# Altium footprint library Philips Footprints.PcbLib: 101 footprints (part 4 of 7)
Each footprint in its own frame and in the unit in brackets; x right, y up, seen from the top. Pads: shape width x height; smd on the part's side, far side on the other; paste and mask are expansions set on the pad; w line width, h text height; cw(c..) or ccw(c..) is an arc to the next point about the centre after c.
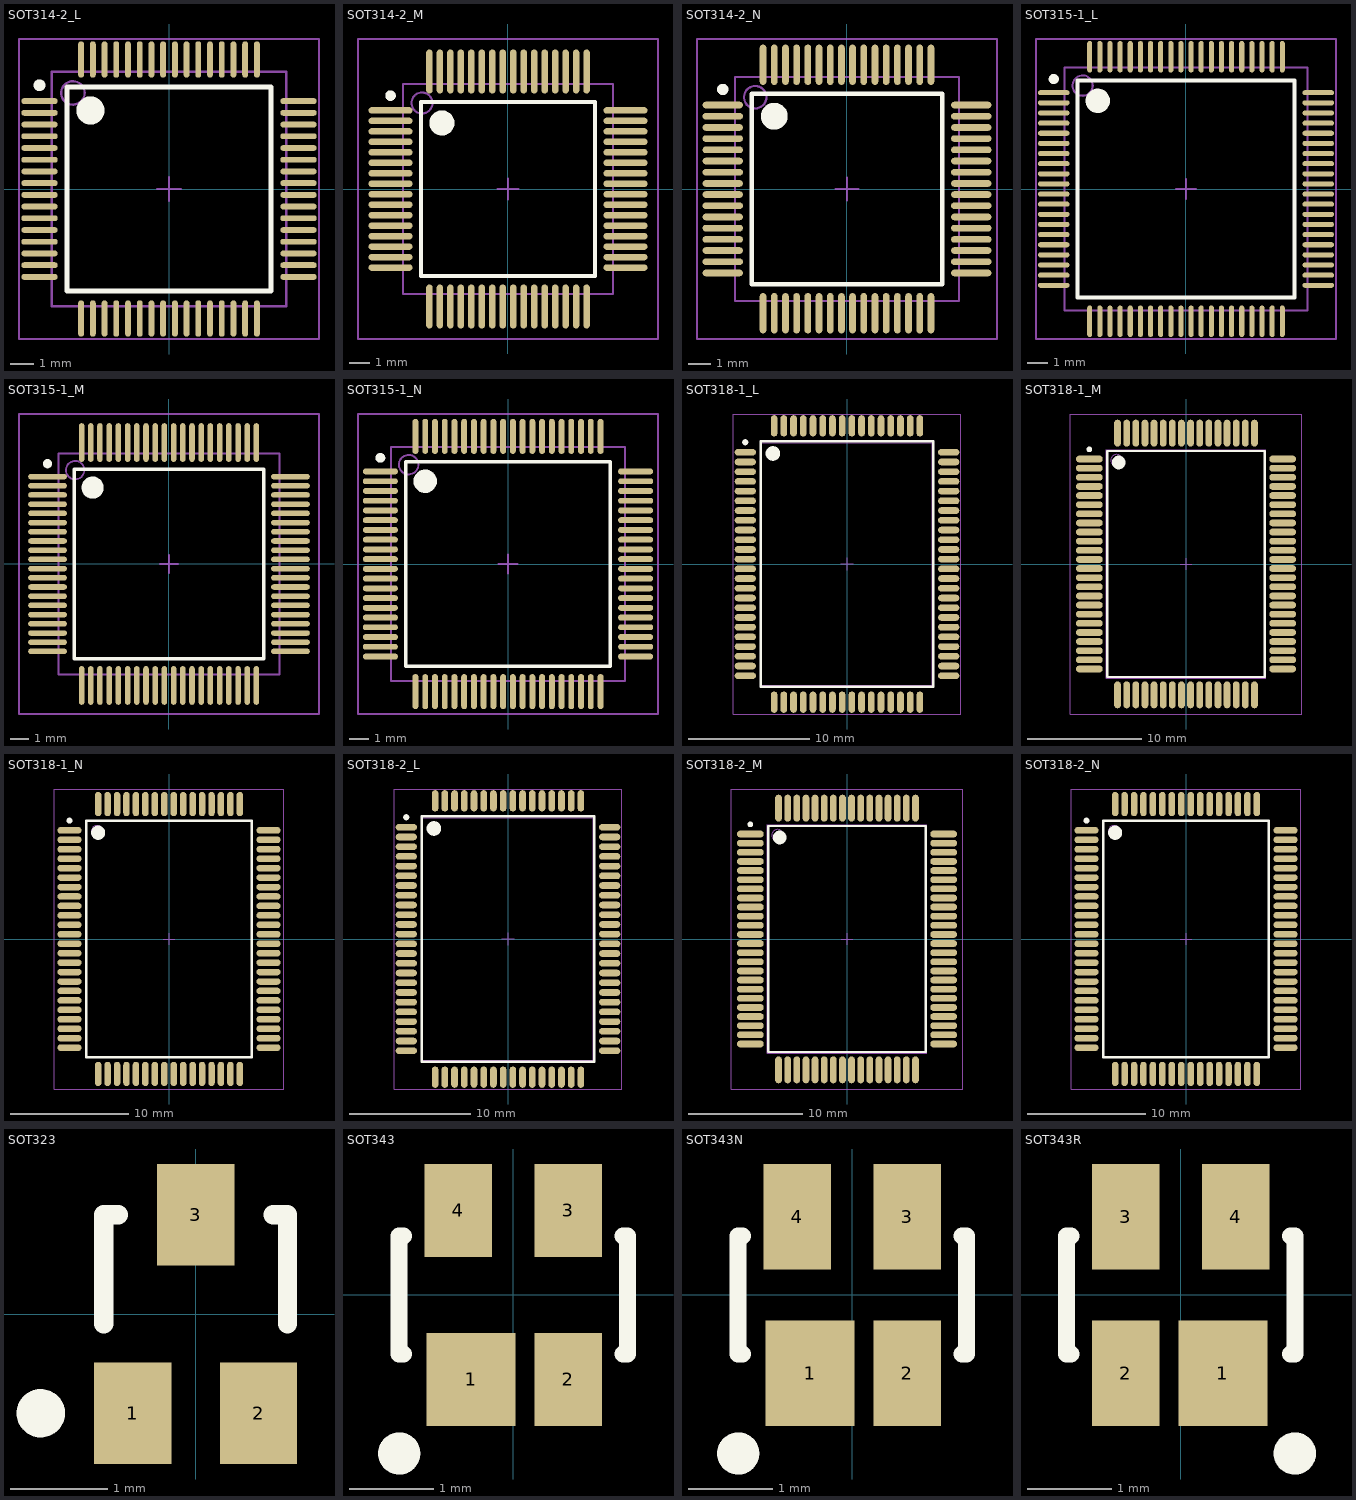
[diagram p3: the footprints below, top view; thin cyan lines are the x and y axes]

## SOT314-2_L [mm] "64-Pin Thin Quad Flat Pack 0.5 mm Pitch, IPC High Density"
height 1.6
pads (64):
  oval 1.55x0.25 smd: 1(-5.525,3.75) 2(-5.525,3.25) 3(-5.525,2.75) 4(-5.525,2.25) 5(-5.525,1.75) 6(-5.525,1.25) 7(-5.525,0.75) 8(-5.525,0.25) 9(-5.525,-0.25) 10(-5.525,-0.75) 11(-5.525,-1.25) 12(-5.525,-1.75) 13(-5.525,-2.25) 14(-5.525,-2.75) 15(-5.525,-3.25) 16(-5.525,-3.75) 33(5.525,-3.75) 34(5.525,-3.25) 35(5.525,-2.75) 36(5.525,-2.25) 37(5.525,-1.75) 38(5.525,-1.25) 39(5.525,-0.75) 40(5.525,-0.25) 41(5.525,0.25) 42(5.525,0.75) 43(5.525,1.25) 44(5.525,1.75) 45(5.525,2.25) 46(5.525,2.75) 47(5.525,3.25) 48(5.525,3.75)
  oval 0.25x1.55 smd: 17(-3.75,-5.525) 18(-3.25,-5.525) 19(-2.75,-5.525) 20(-2.25,-5.525) 21(-1.75,-5.525) 22(-1.25,-5.525) 23(-0.75,-5.525) 24(-0.25,-5.525) 25(0.25,-5.525) 26(0.75,-5.525) 27(1.25,-5.525) 28(1.75,-5.525) 29(2.25,-5.525) 30(2.75,-5.525) 31(3.25,-5.525) 32(3.75,-5.525) 49(3.75,5.525) 50(3.25,5.525) 51(2.75,5.525) 52(2.25,5.525) 53(1.75,5.525) 54(1.25,5.525) 55(0.75,5.525) 56(0.25,5.525) 57(-0.25,5.525) 58(-0.75,5.525) 59(-1.25,5.525) 60(-1.75,5.525) 61(-2.25,5.525) 62(-2.75,5.525) 63(-3.25,5.525) 64(-3.75,5.525)
Top Overlay:
  circle w0.6: c-3.35,3.35 r0.3
  circle w0.25: c-5.525,4.425 r0.125
  lines w0.2: -4.35,-4.35 4.35,-4.35 4.35,4.35 -4.35,4.35 -4.35,-4.35
Mechanical 13:
  circle w0.1: c-4.1,4.1 r0.5
  lines w0.1: -5,-5 5,-5 5,5 -5,5 -5,-5
Mechanical 15:
  lines w0.1: -0.5,0 0.5,0 ; 0,-0.5 0,0.5 ; -6.4,-6.4 6.4,-6.4 6.4,6.4 -6.4,6.4 -6.4,-6.4
3D body: height 1.6, standoff 0, extent -5,-5 5,5

## SOT314-2_M [mm] "64-Pin Thin Quad Flat Pack 0.5 mm Pitch, IPC Low Density"
height 1.6
pads (64):
  oval 2.1x0.3 smd: 1(-5.6,3.75) 2(-5.6,3.25) 3(-5.6,2.75) 4(-5.6,2.25) 5(-5.6,1.75) 6(-5.6,1.25) 7(-5.6,0.75) 8(-5.6,0.25) 9(-5.6,-0.25) 10(-5.6,-0.75) 11(-5.6,-1.25) 12(-5.6,-1.75) 13(-5.6,-2.25) 14(-5.6,-2.75) 15(-5.6,-3.25) 16(-5.6,-3.75) 33(5.6,-3.75) 34(5.6,-3.25) 35(5.6,-2.75) 36(5.6,-2.25) 37(5.6,-1.75) 38(5.6,-1.25) 39(5.6,-0.75) 40(5.6,-0.25) 41(5.6,0.25) 42(5.6,0.75) 43(5.6,1.25) 44(5.6,1.75) 45(5.6,2.25) 46(5.6,2.75) 47(5.6,3.25) 48(5.6,3.75)
  oval 0.3x2.1 smd: 17(-3.75,-5.6) 18(-3.25,-5.6) 19(-2.75,-5.6) 20(-2.25,-5.6) 21(-1.75,-5.6) 22(-1.25,-5.6) 23(-0.75,-5.6) 24(-0.25,-5.6) 25(0.25,-5.6) 26(0.75,-5.6) 27(1.25,-5.6) 28(1.75,-5.6) 29(2.25,-5.6) 30(2.75,-5.6) 31(3.25,-5.6) 32(3.75,-5.6) 49(3.75,5.6) 50(3.25,5.6) 51(2.75,5.6) 52(2.25,5.6) 53(1.75,5.6) 54(1.25,5.6) 55(0.75,5.6) 56(0.25,5.6) 57(-0.25,5.6) 58(-0.75,5.6) 59(-1.25,5.6) 60(-1.75,5.6) 61(-2.25,5.6) 62(-2.75,5.6) 63(-3.25,5.6) 64(-3.75,5.6)
Top Overlay:
  circle w0.6: c-3.15,3.15 r0.3
  circle w0.25: c-5.6,4.45 r0.125
  lines w0.2: -4.15,-4.15 4.15,-4.15 4.15,4.15 -4.15,4.15 -4.15,-4.15
Mechanical 13:
  circle w0.1: c-4.1,4.1 r0.5
  lines w0.1: -5,-5 5,-5 5,5 -5,5 -5,-5
Mechanical 15:
  lines w0.1: -0.5,0 0.5,0 ; 0,-0.5 0,0.5 ; -7.15,-7.15 7.15,-7.15 7.15,7.15 -7.15,7.15 -7.15,-7.15
3D body: height 1.6, standoff 0, extent -5,-5 5,5

## SOT314-2_N [mm] "64-Pin Thin Quad Flat Pack 0.5 mm Pitch, IPC Medium Density"
height 1.6
pads (64):
  oval 1.8x0.3 smd: 1(-5.55,3.75) 2(-5.55,3.25) 3(-5.55,2.75) 4(-5.55,2.25) 5(-5.55,1.75) 6(-5.55,1.25) 7(-5.55,0.75) 8(-5.55,0.25) 9(-5.55,-0.25) 10(-5.55,-0.75) 11(-5.55,-1.25) 12(-5.55,-1.75) 13(-5.55,-2.25) 14(-5.55,-2.75) 15(-5.55,-3.25) 16(-5.55,-3.75) 33(5.55,-3.75) 34(5.55,-3.25) 35(5.55,-2.75) 36(5.55,-2.25) 37(5.55,-1.75) 38(5.55,-1.25) 39(5.55,-0.75) 40(5.55,-0.25) 41(5.55,0.25) 42(5.55,0.75) 43(5.55,1.25) 44(5.55,1.75) 45(5.55,2.25) 46(5.55,2.75) 47(5.55,3.25) 48(5.55,3.75)
  oval 0.3x1.8 smd: 17(-3.75,-5.55) 18(-3.25,-5.55) 19(-2.75,-5.55) 20(-2.25,-5.55) 21(-1.75,-5.55) 22(-1.25,-5.55) 23(-0.75,-5.55) 24(-0.25,-5.55) 25(0.25,-5.55) 26(0.75,-5.55) 27(1.25,-5.55) 28(1.75,-5.55) 29(2.25,-5.55) 30(2.75,-5.55) 31(3.25,-5.55) 32(3.75,-5.55) 49(3.75,5.55) 50(3.25,5.55) 51(2.75,5.55) 52(2.25,5.55) 53(1.75,5.55) 54(1.25,5.55) 55(0.75,5.55) 56(0.25,5.55) 57(-0.25,5.55) 58(-0.75,5.55) 59(-1.25,5.55) 60(-1.75,5.55) 61(-2.25,5.55) 62(-2.75,5.55) 63(-3.25,5.55) 64(-3.75,5.55)
Top Overlay:
  circle w0.25: c-5.55,4.45 r0.125
  circle w0.6: c-3.25,3.25 r0.3
  lines w0.2: -4.25,-4.25 -4.25,4.25 4.25,4.25 4.25,-4.25 -4.25,-4.25
Mechanical 13:
  circle w0.1: c-4.1,4.1 r0.5
  lines w0.1: -5,-5 -5,5 5,5 5,-5 -5,-5
Mechanical 15:
  lines w0.1: -0.5,0 0.5,0 ; 0,-0.5 0,0.5 ; -6.7,-6.7 -6.7,6.7 6.7,6.7 6.7,-6.7 -6.7,-6.7
3D body: height 1.6, standoff 0, extent -5,-5 5,5

## SOT315-1_L [mm] "80-Pin Thin Quad Flat Pack 0.5 mm Pitch, IPC High Density"
height 1.6
pads (80):
  oval 1.55x0.25 smd: 1(-6.525,4.75) 2(-6.525,4.25) 3(-6.525,3.75) 4(-6.525,3.25) 5(-6.525,2.75) 6(-6.525,2.25) 7(-6.525,1.75) 8(-6.525,1.25) 9(-6.525,0.75) 10(-6.525,0.25) 11(-6.525,-0.25) 12(-6.525,-0.75) 13(-6.525,-1.25) 14(-6.525,-1.75) 15(-6.525,-2.25) 16(-6.525,-2.75) 17(-6.525,-3.25) 18(-6.525,-3.75) 19(-6.525,-4.25) 20(-6.525,-4.75) 41(6.525,-4.75) 42(6.525,-4.25) 43(6.525,-3.75) 44(6.525,-3.25) 45(6.525,-2.75) 46(6.525,-2.25) 47(6.525,-1.75) 48(6.525,-1.25) 49(6.525,-0.75) 50(6.525,-0.25) 51(6.525,0.25) 52(6.525,0.75) 53(6.525,1.25) 54(6.525,1.75) 55(6.525,2.25) 56(6.525,2.75) 57(6.525,3.25) 58(6.525,3.75) 59(6.525,4.25) 60(6.525,4.75)
  oval 0.25x1.55 smd: 21(-4.75,-6.525) 22(-4.25,-6.525) 23(-3.75,-6.525) 24(-3.25,-6.525) 25(-2.75,-6.525) 26(-2.25,-6.525) 27(-1.75,-6.525) 28(-1.25,-6.525) 29(-0.75,-6.525) 30(-0.25,-6.525) 31(0.25,-6.525) 32(0.75,-6.525) 33(1.25,-6.525) 34(1.75,-6.525) 35(2.25,-6.525) 36(2.75,-6.525) 37(3.25,-6.525) 38(3.75,-6.525) 39(4.25,-6.525) 40(4.75,-6.525) 61(4.75,6.525) 62(4.25,6.525) 63(3.75,6.525) 64(3.25,6.525) 65(2.75,6.525) 66(2.25,6.525) 67(1.75,6.525) 68(1.25,6.525) 69(0.75,6.525) 70(0.25,6.525) 71(-0.25,6.525) 72(-0.75,6.525) 73(-1.25,6.525) 74(-1.75,6.525) 75(-2.25,6.525) 76(-2.75,6.525) 77(-3.25,6.525) 78(-3.75,6.525) 79(-4.25,6.525) 80(-4.75,6.525)
Top Overlay:
  circle w0.6: c-4.35,4.35 r0.3
  circle w0.25: c-6.525,5.425 r0.125
  lines w0.2: -5.35,-5.35 5.35,-5.35 5.35,5.35 -5.35,5.35 -5.35,-5.35
Mechanical 13:
  circle w0.1: c-5.1,5.1 r0.5
  lines w0.1: -6,-6 6,-6 6,6 -6,6 -6,-6
Mechanical 15:
  lines w0.1: -0.5,0 0.5,0 ; 0,-0.5 0,0.5 ; -7.4,-7.4 7.4,-7.4 7.4,7.4 -7.4,7.4 -7.4,-7.4
3D body: height 1.6, standoff 0, extent -6,-6 6,6

## SOT315-1_M [mm] "80-Pin Thin Quad Flat Pack 0.5 mm Pitch, IPC Low Density"
height 1.6
pads (80):
  oval 2.1x0.3 smd: 1(-6.6,4.75) 2(-6.6,4.25) 3(-6.6,3.75) 4(-6.6,3.25) 5(-6.6,2.75) 6(-6.6,2.25) 7(-6.6,1.75) 8(-6.6,1.25) 9(-6.6,0.75) 10(-6.6,0.25) 11(-6.6,-0.25) 12(-6.6,-0.75) 13(-6.6,-1.25) 14(-6.6,-1.75) 15(-6.6,-2.25) 16(-6.6,-2.75) 17(-6.6,-3.25) 18(-6.6,-3.75) 19(-6.6,-4.25) 20(-6.6,-4.75) 41(6.6,-4.75) 42(6.6,-4.25) 43(6.6,-3.75) 44(6.6,-3.25) 45(6.6,-2.75) 46(6.6,-2.25) 47(6.6,-1.75) 48(6.6,-1.25) 49(6.6,-0.75) 50(6.6,-0.25) 51(6.6,0.25) 52(6.6,0.75) 53(6.6,1.25) 54(6.6,1.75) 55(6.6,2.25) 56(6.6,2.75) 57(6.6,3.25) 58(6.6,3.75) 59(6.6,4.25) 60(6.6,4.75)
  oval 0.3x2.1 smd: 21(-4.75,-6.6) 22(-4.25,-6.6) 23(-3.75,-6.6) 24(-3.25,-6.6) 25(-2.75,-6.6) 26(-2.25,-6.6) 27(-1.75,-6.6) 28(-1.25,-6.6) 29(-0.75,-6.6) 30(-0.25,-6.6) 31(0.25,-6.6) 32(0.75,-6.6) 33(1.25,-6.6) 34(1.75,-6.6) 35(2.25,-6.6) 36(2.75,-6.6) 37(3.25,-6.6) 38(3.75,-6.6) 39(4.25,-6.6) 40(4.75,-6.6) 61(4.75,6.6) 62(4.25,6.6) 63(3.75,6.6) 64(3.25,6.6) 65(2.75,6.6) 66(2.25,6.6) 67(1.75,6.6) 68(1.25,6.6) 69(0.75,6.6) 70(0.25,6.6) 71(-0.25,6.6) 72(-0.75,6.6) 73(-1.25,6.6) 74(-1.75,6.6) 75(-2.25,6.6) 76(-2.75,6.6) 77(-3.25,6.6) 78(-3.75,6.6) 79(-4.25,6.6) 80(-4.75,6.6)
Top Overlay:
  circle w0.6: c-4.15,4.15 r0.3
  circle w0.25: c-6.6,5.45 r0.125
  lines w0.2: -5.15,-5.15 5.15,-5.15 5.15,5.15 -5.15,5.15 -5.15,-5.15
Mechanical 13:
  circle w0.1: c-5.1,5.1 r0.5
  lines w0.1: -6,-6 6,-6 6,6 -6,6 -6,-6
Mechanical 15:
  lines w0.1: -0.5,0 0.5,0 ; 0,-0.5 0,0.5 ; -8.15,-8.15 8.15,-8.15 8.15,8.15 -8.15,8.15 -8.15,-8.15
3D body: height 1.6, standoff 0, extent -6,-6 6,6

## SOT315-1_N [mm] "80-Pin Thin Quad Flat Pack 0.5 mm Pitch, IPC Medium Density"
height 1.6
pads (80):
  oval 1.8x0.3 smd: 1(-6.55,4.75) 2(-6.55,4.25) 3(-6.55,3.75) 4(-6.55,3.25) 5(-6.55,2.75) 6(-6.55,2.25) 7(-6.55,1.75) 8(-6.55,1.25) 9(-6.55,0.75) 10(-6.55,0.25) 11(-6.55,-0.25) 12(-6.55,-0.75) 13(-6.55,-1.25) 14(-6.55,-1.75) 15(-6.55,-2.25) 16(-6.55,-2.75) 17(-6.55,-3.25) 18(-6.55,-3.75) 19(-6.55,-4.25) 20(-6.55,-4.75) 41(6.55,-4.75) 42(6.55,-4.25) 43(6.55,-3.75) 44(6.55,-3.25) 45(6.55,-2.75) 46(6.55,-2.25) 47(6.55,-1.75) 48(6.55,-1.25) 49(6.55,-0.75) 50(6.55,-0.25) 51(6.55,0.25) 52(6.55,0.75) 53(6.55,1.25) 54(6.55,1.75) 55(6.55,2.25) 56(6.55,2.75) 57(6.55,3.25) 58(6.55,3.75) 59(6.55,4.25) 60(6.55,4.75)
  oval 0.3x1.8 smd: 21(-4.75,-6.55) 22(-4.25,-6.55) 23(-3.75,-6.55) 24(-3.25,-6.55) 25(-2.75,-6.55) 26(-2.25,-6.55) 27(-1.75,-6.55) 28(-1.25,-6.55) 29(-0.75,-6.55) 30(-0.25,-6.55) 31(0.25,-6.55) 32(0.75,-6.55) 33(1.25,-6.55) 34(1.75,-6.55) 35(2.25,-6.55) 36(2.75,-6.55) 37(3.25,-6.55) 38(3.75,-6.55) 39(4.25,-6.55) 40(4.75,-6.55) 61(4.75,6.55) 62(4.25,6.55) 63(3.75,6.55) 64(3.25,6.55) 65(2.75,6.55) 66(2.25,6.55) 67(1.75,6.55) 68(1.25,6.55) 69(0.75,6.55) 70(0.25,6.55) 71(-0.25,6.55) 72(-0.75,6.55) 73(-1.25,6.55) 74(-1.75,6.55) 75(-2.25,6.55) 76(-2.75,6.55) 77(-3.25,6.55) 78(-3.75,6.55) 79(-4.25,6.55) 80(-4.75,6.55)
Top Overlay:
  circle w0.6: c-4.25,4.25 r0.3
  circle w0.25: c-6.55,5.45 r0.125
  lines w0.2: -5.25,-5.25 5.25,-5.25 5.25,5.25 -5.25,5.25 -5.25,-5.25
Mechanical 13:
  circle w0.1: c-5.1,5.1 r0.5
  lines w0.1: -6,-6 6,-6 6,6 -6,6 -6,-6
Mechanical 15:
  lines w0.1: -0.5,0 0.5,0 ; 0,-0.5 0,0.5 ; -7.7,-7.7 7.7,-7.7 7.7,7.7 -7.7,7.7 -7.7,-7.7
3D body: height 1.6, standoff 0, extent -6,-6 6,6

## SOT318-1_L [mm] "80-Pin Quad Flat Pack Rectangular 0.8 mm Pitch, IPC High Density"
height 3.3
pads (80):
  oval 1.75x0.55 smd: 1(-8.375,9.2) 2(-8.375,8.4) 3(-8.375,7.6) 4(-8.375,6.8) 5(-8.375,6) 6(-8.375,5.2) 7(-8.375,4.4) 8(-8.375,3.6) 9(-8.375,2.8) 10(-8.375,2) 11(-8.375,1.2) 12(-8.375,0.4) 13(-8.375,-0.4) 14(-8.375,-1.2) 15(-8.375,-2) 16(-8.375,-2.8) 17(-8.375,-3.6) 18(-8.375,-4.4) 19(-8.375,-5.2) 20(-8.375,-6) 21(-8.375,-6.8) 22(-8.375,-7.6) 23(-8.375,-8.4) 24(-8.375,-9.2) 41(8.375,-9.2) 42(8.375,-8.4) 43(8.375,-7.6) 44(8.375,-6.8) 45(8.375,-6) 46(8.375,-5.2) 47(8.375,-4.4) 48(8.375,-3.6) 49(8.375,-2.8) 50(8.375,-2) 51(8.375,-1.2) 52(8.375,-0.4) 53(8.375,0.4) 54(8.375,1.2) 55(8.375,2) 56(8.375,2.8) 57(8.375,3.6) 58(8.375,4.4) 59(8.375,5.2) 60(8.375,6) 61(8.375,6.8) 62(8.375,7.6) 63(8.375,8.4) 64(8.375,9.2)
  oval 0.55x1.75 smd: 25(-6,-11.375) 26(-5.2,-11.375) 27(-4.4,-11.375) 28(-3.6,-11.375) 29(-2.8,-11.375) 30(-2,-11.375) 31(-1.2,-11.375) 32(-0.4,-11.375) 33(0.4,-11.375) 34(1.2,-11.375) 35(2,-11.375) 36(2.8,-11.375) 37(3.6,-11.375) 38(4.4,-11.375) 39(5.2,-11.375) 40(6,-11.375) 65(6,11.375) 66(5.2,11.375) 67(4.4,11.375) 68(3.6,11.375) 69(2.8,11.375) 70(2,11.375) 71(1.2,11.375) 72(0.4,11.375) 73(-0.4,11.375) 74(-1.2,11.375) 75(-2,11.375) 76(-2.8,11.375) 77(-3.6,11.375) 78(-4.4,11.375) 79(-5.2,11.375) 80(-6,11.375)
Top Overlay:
  circle w0.6: c-6.1,9.1 r0.3
  circle w0.25: c-8.375,10.025 r0.125
  lines w0.2: -7.1,-10.1 7.1,-10.1 7.1,10.1 -7.1,10.1 -7.1,-10.1
Mechanical 13:
  circle w0.1: c-6.1,9.1 r0.5
  lines w0.1: -7,-10 7,-10 7,10 -7,10 -7,-10
Mechanical 15:
  lines w0.1: -0.5,0 0.5,0 ; 0,-0.5 0,0.5 ; -9.35,-12.35 9.35,-12.35 9.35,12.35 -9.35,12.35 -9.35,-12.35
3D body: height 3.3, standoff 0, extent -7,-10 7,10

## SOT318-1_M [mm] "80-Pin Quad Flat Pack Rectangular 0.8 mm Pitch, IPC Low Density"
height 3.3
pads (80):
  oval 2.35x0.6 smd: 1(-8.475,9.2) 2(-8.475,8.4) 3(-8.475,7.6) 4(-8.475,6.8) 5(-8.475,6) 6(-8.475,5.2) 7(-8.475,4.4) 8(-8.475,3.6) 9(-8.475,2.8) 10(-8.475,2) 11(-8.475,1.2) 12(-8.475,0.4) 13(-8.475,-0.4) 14(-8.475,-1.2) 15(-8.475,-2) 16(-8.475,-2.8) 17(-8.475,-3.6) 18(-8.475,-4.4) 19(-8.475,-5.2) 20(-8.475,-6) 21(-8.475,-6.8) 22(-8.475,-7.6) 23(-8.475,-8.4) 24(-8.475,-9.2) 41(8.475,-9.2) 42(8.475,-8.4) 43(8.475,-7.6) 44(8.475,-6.8) 45(8.475,-6) 46(8.475,-5.2) 47(8.475,-4.4) 48(8.475,-3.6) 49(8.475,-2.8) 50(8.475,-2) 51(8.475,-1.2) 52(8.475,-0.4) 53(8.475,0.4) 54(8.475,1.2) 55(8.475,2) 56(8.475,2.8) 57(8.475,3.6) 58(8.475,4.4) 59(8.475,5.2) 60(8.475,6) 61(8.475,6.8) 62(8.475,7.6) 63(8.475,8.4) 64(8.475,9.2)
  oval 0.6x2.35 smd: 25(-6,-11.475) 26(-5.2,-11.475) 27(-4.4,-11.475) 28(-3.6,-11.475) 29(-2.8,-11.475) 30(-2,-11.475) 31(-1.2,-11.475) 32(-0.4,-11.475) 33(0.4,-11.475) 34(1.2,-11.475) 35(2,-11.475) 36(2.8,-11.475) 37(3.6,-11.475) 38(4.4,-11.475) 39(5.2,-11.475) 40(6,-11.475) 65(6,11.475) 66(5.2,11.475) 67(4.4,11.475) 68(3.6,11.475) 69(2.8,11.475) 70(2,11.475) 71(1.2,11.475) 72(0.4,11.475) 73(-0.4,11.475) 74(-1.2,11.475) 75(-2,11.475) 76(-2.8,11.475) 77(-3.6,11.475) 78(-4.4,11.475) 79(-5.2,11.475) 80(-6,11.475)
Top Overlay:
  circle w0.25: c-8.475,10.05 r0.125
  circle w0.6: c-5.9,8.9 r0.3
  lines w0.2: -6.9,-9.9 -6.9,9.9 6.9,9.9 6.9,-9.9 -6.9,-9.9
Mechanical 13:
  circle w0.1: c-6.1,9.1 r0.5
  lines w0.1: -7,-10 -7,10 7,10 7,-10 -7,-10
Mechanical 15:
  lines w0.1: -0.5,0 0.5,0 ; 0,-0.5 0,0.5 ; -10.15,-13.15 -10.15,13.15 10.15,13.15 10.15,-13.15 -10.15,-13.15
3D body: height 3.3, standoff 0, extent -7,-10 7,10

## SOT318-1_N [mm] "80-Pin Quad Flat Pack Rectangular 0.8 mm Pitch, IPC Medium Density"
height 3.3
pads (80):
  oval 2.05x0.55 smd: 1(-8.425,9.2) 2(-8.425,8.4) 3(-8.425,7.6) 4(-8.425,6.8) 5(-8.425,6) 6(-8.425,5.2) 7(-8.425,4.4) 8(-8.425,3.6) 9(-8.425,2.8) 10(-8.425,2) 11(-8.425,1.2) 12(-8.425,0.4) 13(-8.425,-0.4) 14(-8.425,-1.2) 15(-8.425,-2) 16(-8.425,-2.8) 17(-8.425,-3.6) 18(-8.425,-4.4) 19(-8.425,-5.2) 20(-8.425,-6) 21(-8.425,-6.8) 22(-8.425,-7.6) 23(-8.425,-8.4) 24(-8.425,-9.2) 41(8.425,-9.2) 42(8.425,-8.4) 43(8.425,-7.6) 44(8.425,-6.8) 45(8.425,-6) 46(8.425,-5.2) 47(8.425,-4.4) 48(8.425,-3.6) 49(8.425,-2.8) 50(8.425,-2) 51(8.425,-1.2) 52(8.425,-0.4) 53(8.425,0.4) 54(8.425,1.2) 55(8.425,2) 56(8.425,2.8) 57(8.425,3.6) 58(8.425,4.4) 59(8.425,5.2) 60(8.425,6) 61(8.425,6.8) 62(8.425,7.6) 63(8.425,8.4) 64(8.425,9.2)
  oval 0.55x2.05 smd: 25(-6,-11.425) 26(-5.2,-11.425) 27(-4.4,-11.425) 28(-3.6,-11.425) 29(-2.8,-11.425) 30(-2,-11.425) 31(-1.2,-11.425) 32(-0.4,-11.425) 33(0.4,-11.425) 34(1.2,-11.425) 35(2,-11.425) 36(2.8,-11.425) 37(3.6,-11.425) 38(4.4,-11.425) 39(5.2,-11.425) 40(6,-11.425) 65(6,11.425) 66(5.2,11.425) 67(4.4,11.425) 68(3.6,11.425) 69(2.8,11.425) 70(2,11.425) 71(1.2,11.425) 72(0.4,11.425) 73(-0.4,11.425) 74(-1.2,11.425) 75(-2,11.425) 76(-2.8,11.425) 77(-3.6,11.425) 78(-4.4,11.425) 79(-5.2,11.425) 80(-6,11.425)
Top Overlay:
  circle w0.6: c-6,9 r0.3
  circle w0.25: c-8.425,10.025 r0.125
  lines w0.2: -7,-10 7,-10 7,10 -7,10 -7,-10
Mechanical 13:
  circle w0.1: c-6.1,9.1 r0.5
  lines w0.1: -7,-10 7,-10 7,10 -7,10 -7,-10
Mechanical 15:
  lines w0.1: -0.5,0 0.5,0 ; 0,-0.5 0,0.5 ; -9.7,-12.7 9.7,-12.7 9.7,12.7 -9.7,12.7 -9.7,-12.7
3D body: height 3.3, standoff 0, extent -7,-10 7,10

## SOT318-2_L [mm] "80-Pin Quad Flat Pack Rectangular 0.8 mm Pitch, IPC High Density"
height 3.2
pads (80):
  oval 1.75x0.55 smd: 1(-8.375,9.2) 2(-8.375,8.4) 3(-8.375,7.6) 4(-8.375,6.8) 5(-8.375,6) 6(-8.375,5.2) 7(-8.375,4.4) 8(-8.375,3.6) 9(-8.375,2.8) 10(-8.375,2) 11(-8.375,1.2) 12(-8.375,0.4) 13(-8.375,-0.4) 14(-8.375,-1.2) 15(-8.375,-2) 16(-8.375,-2.8) 17(-8.375,-3.6) 18(-8.375,-4.4) 19(-8.375,-5.2) 20(-8.375,-6) 21(-8.375,-6.8) 22(-8.375,-7.6) 23(-8.375,-8.4) 24(-8.375,-9.2) 41(8.375,-9.2) 42(8.375,-8.4) 43(8.375,-7.6) 44(8.375,-6.8) 45(8.375,-6) 46(8.375,-5.2) 47(8.375,-4.4) 48(8.375,-3.6) 49(8.375,-2.8) 50(8.375,-2) 51(8.375,-1.2) 52(8.375,-0.4) 53(8.375,0.4) 54(8.375,1.2) 55(8.375,2) 56(8.375,2.8) 57(8.375,3.6) 58(8.375,4.4) 59(8.375,5.2) 60(8.375,6) 61(8.375,6.8) 62(8.375,7.6) 63(8.375,8.4) 64(8.375,9.2)
  oval 0.55x1.75 smd: 25(-6,-11.375) 26(-5.2,-11.375) 27(-4.4,-11.375) 28(-3.6,-11.375) 29(-2.8,-11.375) 30(-2,-11.375) 31(-1.2,-11.375) 32(-0.4,-11.375) 33(0.4,-11.375) 34(1.2,-11.375) 35(2,-11.375) 36(2.8,-11.375) 37(3.6,-11.375) 38(4.4,-11.375) 39(5.2,-11.375) 40(6,-11.375) 65(6,11.375) 66(5.2,11.375) 67(4.4,11.375) 68(3.6,11.375) 69(2.8,11.375) 70(2,11.375) 71(1.2,11.375) 72(0.4,11.375) 73(-0.4,11.375) 74(-1.2,11.375) 75(-2,11.375) 76(-2.8,11.375) 77(-3.6,11.375) 78(-4.4,11.375) 79(-5.2,11.375) 80(-6,11.375)
Top Overlay:
  circle w0.6: c-6.1,9.1 r0.3
  circle w0.25: c-8.375,10.025 r0.125
  lines w0.2: -7.1,-10.1 7.1,-10.1 7.1,10.1 -7.1,10.1 -7.1,-10.1
Mechanical 13:
  circle w0.1: c-6.1,9.1 r0.5
  lines w0.1: -7,-10 7,-10 7,10 -7,10 -7,-10
Mechanical 15:
  lines w0.1: -0.5,0 0.5,0 ; 0,-0.5 0,0.5 ; -9.35,-12.35 9.35,-12.35 9.35,12.35 -9.35,12.35 -9.35,-12.35
3D body: height 3.2, standoff 0, extent -7,-10 7,10

## SOT318-2_M [mm] "80-Pin Quad Flat Pack Rectangular 0.8 mm Pitch, IPC Low Density"
height 3.2
pads (80):
  oval 2.35x0.6 smd: 1(-8.475,9.2) 2(-8.475,8.4) 3(-8.475,7.6) 4(-8.475,6.8) 5(-8.475,6) 6(-8.475,5.2) 7(-8.475,4.4) 8(-8.475,3.6) 9(-8.475,2.8) 10(-8.475,2) 11(-8.475,1.2) 12(-8.475,0.4) 13(-8.475,-0.4) 14(-8.475,-1.2) 15(-8.475,-2) 16(-8.475,-2.8) 17(-8.475,-3.6) 18(-8.475,-4.4) 19(-8.475,-5.2) 20(-8.475,-6) 21(-8.475,-6.8) 22(-8.475,-7.6) 23(-8.475,-8.4) 24(-8.475,-9.2) 41(8.475,-9.2) 42(8.475,-8.4) 43(8.475,-7.6) 44(8.475,-6.8) 45(8.475,-6) 46(8.475,-5.2) 47(8.475,-4.4) 48(8.475,-3.6) 49(8.475,-2.8) 50(8.475,-2) 51(8.475,-1.2) 52(8.475,-0.4) 53(8.475,0.4) 54(8.475,1.2) 55(8.475,2) 56(8.475,2.8) 57(8.475,3.6) 58(8.475,4.4) 59(8.475,5.2) 60(8.475,6) 61(8.475,6.8) 62(8.475,7.6) 63(8.475,8.4) 64(8.475,9.2)
  oval 0.6x2.35 smd: 25(-6,-11.475) 26(-5.2,-11.475) 27(-4.4,-11.475) 28(-3.6,-11.475) 29(-2.8,-11.475) 30(-2,-11.475) 31(-1.2,-11.475) 32(-0.4,-11.475) 33(0.4,-11.475) 34(1.2,-11.475) 35(2,-11.475) 36(2.8,-11.475) 37(3.6,-11.475) 38(4.4,-11.475) 39(5.2,-11.475) 40(6,-11.475) 65(6,11.475) 66(5.2,11.475) 67(4.4,11.475) 68(3.6,11.475) 69(2.8,11.475) 70(2,11.475) 71(1.2,11.475) 72(0.4,11.475) 73(-0.4,11.475) 74(-1.2,11.475) 75(-2,11.475) 76(-2.8,11.475) 77(-3.6,11.475) 78(-4.4,11.475) 79(-5.2,11.475) 80(-6,11.475)
Top Overlay:
  circle w0.25: c-8.475,10.05 r0.125
  circle w0.6: c-5.9,8.9 r0.3
  lines w0.2: -6.9,-9.9 -6.9,9.9 6.9,9.9 6.9,-9.9 -6.9,-9.9
Mechanical 13:
  circle w0.1: c-6.1,9.1 r0.5
  lines w0.1: -7,-10 -7,10 7,10 7,-10 -7,-10
Mechanical 15:
  lines w0.1: -0.5,0 0.5,0 ; 0,-0.5 0,0.5 ; -10.15,-13.15 -10.15,13.15 10.15,13.15 10.15,-13.15 -10.15,-13.15
3D body: height 3.2, standoff 0, extent -7,-10 7,10

## SOT318-2_N [mm] "80-Pin Quad Flat Pack Rectangular 0.8 mm Pitch, IPC Medium Density"
height 3.2
pads (80):
  oval 2.05x0.55 smd: 1(-8.425,9.2) 2(-8.425,8.4) 3(-8.425,7.6) 4(-8.425,6.8) 5(-8.425,6) 6(-8.425,5.2) 7(-8.425,4.4) 8(-8.425,3.6) 9(-8.425,2.8) 10(-8.425,2) 11(-8.425,1.2) 12(-8.425,0.4) 13(-8.425,-0.4) 14(-8.425,-1.2) 15(-8.425,-2) 16(-8.425,-2.8) 17(-8.425,-3.6) 18(-8.425,-4.4) 19(-8.425,-5.2) 20(-8.425,-6) 21(-8.425,-6.8) 22(-8.425,-7.6) 23(-8.425,-8.4) 24(-8.425,-9.2) 41(8.425,-9.2) 42(8.425,-8.4) 43(8.425,-7.6) 44(8.425,-6.8) 45(8.425,-6) 46(8.425,-5.2) 47(8.425,-4.4) 48(8.425,-3.6) 49(8.425,-2.8) 50(8.425,-2) 51(8.425,-1.2) 52(8.425,-0.4) 53(8.425,0.4) 54(8.425,1.2) 55(8.425,2) 56(8.425,2.8) 57(8.425,3.6) 58(8.425,4.4) 59(8.425,5.2) 60(8.425,6) 61(8.425,6.8) 62(8.425,7.6) 63(8.425,8.4) 64(8.425,9.2)
  oval 0.55x2.05 smd: 25(-6,-11.425) 26(-5.2,-11.425) 27(-4.4,-11.425) 28(-3.6,-11.425) 29(-2.8,-11.425) 30(-2,-11.425) 31(-1.2,-11.425) 32(-0.4,-11.425) 33(0.4,-11.425) 34(1.2,-11.425) 35(2,-11.425) 36(2.8,-11.425) 37(3.6,-11.425) 38(4.4,-11.425) 39(5.2,-11.425) 40(6,-11.425) 65(6,11.425) 66(5.2,11.425) 67(4.4,11.425) 68(3.6,11.425) 69(2.8,11.425) 70(2,11.425) 71(1.2,11.425) 72(0.4,11.425) 73(-0.4,11.425) 74(-1.2,11.425) 75(-2,11.425) 76(-2.8,11.425) 77(-3.6,11.425) 78(-4.4,11.425) 79(-5.2,11.425) 80(-6,11.425)
Top Overlay:
  circle w0.6: c-6,9 r0.3
  circle w0.25: c-8.425,10.025 r0.125
  lines w0.2: -7,-10 7,-10 7,10 -7,10 -7,-10
Mechanical 13:
  circle w0.1: c-6.1,9.1 r0.5
  lines w0.1: -7,-10 7,-10 7,10 -7,10 -7,-10
Mechanical 15:
  lines w0.1: -0.5,0 0.5,0 ; 0,-0.5 0,0.5 ; -9.7,-12.7 9.7,-12.7 9.7,12.7 -9.7,12.7 -9.7,-12.7
3D body: height 3.2, standoff 0, extent -7,-10 7,10

## SOT323 [mm] "SOT-323/SC-70; 3 Leads; Body 2.2 x 2.2 mm, inc. leads (LxW max)"
height 1.1
pads (3):
  rect 0.8x1.05 smd: 1(-0.65,-1.025) 2(0.65,-1.025) 3(0,1.025)
Top Overlay:
  circle w0.25: c-1.6,-1.025 r0.125
  lines w0.2: -0.95,-0.1 -0.95,1.025 -0.8,1.025 ; 0.8,1.025 0.95,1.025 0.95,-0.1

## SOT343 [mm] "SOT-343; 4 Leads; Body 2.2 x 2.2 mm, inc. leads (LxW max)"
height 1
pads (4):
  rect 1.05x1.1 smd: 1(-0.5,-1)
  rect 0.8x1.1 smd: 2(0.65,-1) 3(0.65,1) 4(-0.65,1)
Top Overlay:
  circle w0.25: c-1.35,-1.875 r0.125
  lines w0.2: -1.3,-0.7 -1.35,-0.7 -1.35,0.7 -1.3,0.7 ; 1.3,-0.7 1.35,-0.7 1.35,0.7 1.3,0.7

## SOT343N [mm] "SOT-343; 4 Leads; Body 2.2 x 2.2 mm, inc. leads (LxW max)"
height 1.1
pads (4):
  rect 1.05x1.25 smd: 1(-0.5,-0.925)
  rect 0.8x1.25 smd: 2(0.65,-0.925) 3(0.65,0.925) 4(-0.65,0.925)
Top Overlay:
  circle w0.25: c-1.35,-1.875 r0.125
  lines w0.2: -1.3,-0.7 -1.35,-0.7 -1.35,0.7 -1.3,0.7 ; 1.3,-0.7 1.35,-0.7 1.35,0.7 1.3,0.7

## SOT343R [mm] "SOT-343; 4 Leads; Body 2.2 x 2.2 mm, inc. leads (LxW max); Reverse Pinning"
height 1.1
pads (4):
  rect 1.05x1.25 smd: 1(0.5,-0.925)
  rect 0.8x1.25 smd: 2(-0.65,-0.925) 3(-0.65,0.925) 4(0.65,0.925)
Top Overlay:
  circle w0.25: c1.35,-1.875 r0.125
  lines w0.2: -1.3,-0.7 -1.35,-0.7 -1.35,0.7 -1.3,0.7 ; 1.3,-0.7 1.35,-0.7 1.35,0.7 1.3,0.7